# Altium footprint library PCB - CONNECTOR - SAMTEC - SAMTEC TMMH-109-01-G-DV-ES-A.PcbLib: 1 footprints
Each footprint in its own frame and in the unit in brackets; x right, y up, seen from the top. Pads: shape width x height; smd on the part's side, far side on the other; paste and mask are expansions set on the pad; w line width, h text height; cw(c..) or ccw(c..) is an arc to the next point about the centre after c.
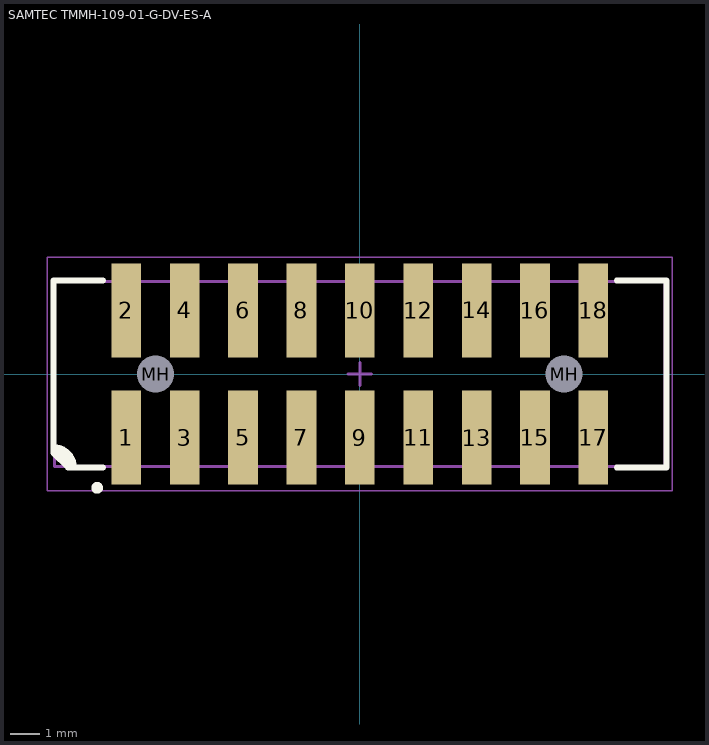
[diagram p0: the footprint, top view; thin cyan lines are the x and y axes]

## SAMTEC TMMH-109-01-G-DV-ES-A [mm] "Connector Header Position, 18 Positions, Body 20.92x6.35mm,Pitch 2mm, Male"
height 5.84
pads (20):
  rect 1.016x3.213 smd: 1(-8,-2.178) 2(-8,2.178) 3(-6,-2.178) 4(-6,2.178) 5(-4,-2.178) 6(-4,2.178) 7(-2,-2.178) 8(-2,2.178) 9(0,-2.178) 10(0,2.178) 11(2,-2.178) 12(2,2.178) 13(4,-2.178) 14(4,2.178) 15(6,-2.178) 16(6,2.178) 17(8,-2.178) 18(8,2.178)
  round 0.97 hole 1.27 unplated: MH(-7,0) MH(7,0)
Top Overlay:
  circle w0.2: c-9,-3.9 r0.1
  lines w0.2: -8.8,-3.2 -10,-3.2 -10.5,-2.7 -10.5,3.2 -8.8,3.2 ; 8.8,-3.2 10.5,-3.2 10.5,3.2 8.8,3.2
  lines w0.4: -10.396,-2.609 cw(c-10.5,-3.2) -9.909,-3.096
Mechanical 13:
  circle w0.1: c-8,-2.15 r0.4
  lines w0.1: -10.46,-3.175 -10.46,3.175 10.46,3.175 10.46,-3.175 -10.45,-3.175 -10.46,-3.175
Mechanical 15:
  lines w0.05: -10.7,-4 -10.7,4 10.7,4 10.7,-4 -10.7,-4
  lines w0.1: -0.4,0 0.4,0 0,0 0,-0.4 0,0.4
3D body "Samtec - TMMH-109-01-G-DV-ES-A v2.step": height 5.84, standoff -1.4, extent -10.46,-3.518 10.461,3.518